# Altium footprint library Footprint.PcbLib: 97 footprints (part 7 of 7)
Each footprint in its own frame and in the unit in brackets; x right, y up, seen from the top. Pads: shape width x height; smd on the part's side, far side on the other; paste and mask are expansions set on the pad; w line width, h text height; cw(c..) or ccw(c..) is an arc to the next point about the centre after c.
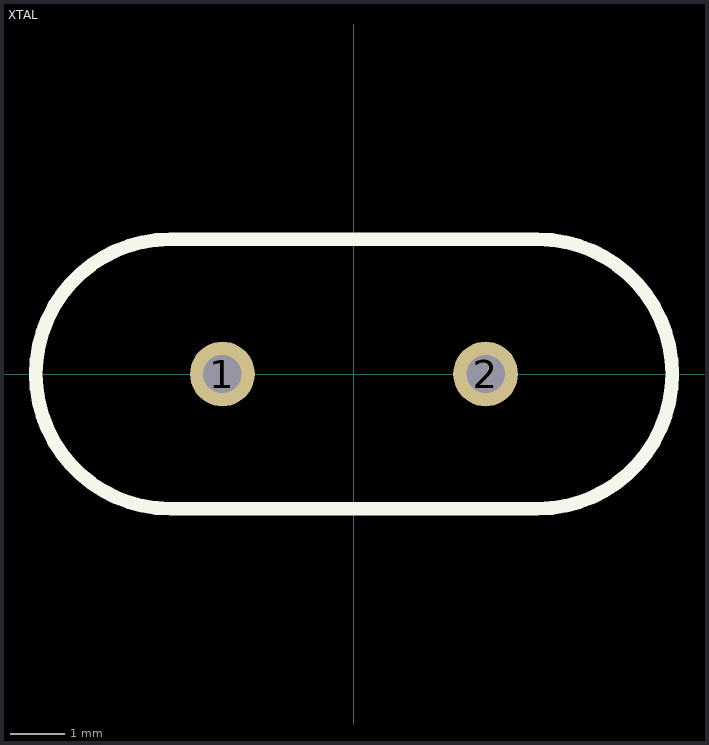
[diagram p6: the footprint, top view; thin cyan lines are the x and y axes]

## XTAL [mm]
pads (2):
  round 1.2 hole 0.711: 1(-2.44,0) 2(2.44,0)
Top Overlay:
  lines w0.254: -3.405,2.5 3.4,2.5 cw(c3.4,0) 5.9,0 cw(c3.4,0) 3.4,-2.5 -3.4,-2.5 ; -3.4,-2.5 cw(c-3.4,0) -5.9,0 cw(c-3.4,0) -3.4,2.5